# Altium schematic symbol library SW-SPDT.A1.Schlib: 1 symbol
Pins are listed as number, name and electrical type; pins without a type are passive.

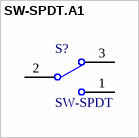
[diagram p0: symbol SW-SPDT.A1]

## SW-SPDT.A1
designator S?, comment SW-SPDT
SPDT Subminiature Toggle Switch, Right Angle Mounting, Vertical Actuation
pins: 1, 2, 3